# Altium integrated library Big_Library_Oscillator.IntLib: 3 symbols
Pins are listed as number, name and electrical type; pins without a type are passive.

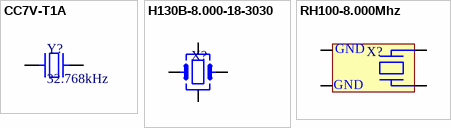
[diagram p0: symbols CC7V-T1A to RH100-8.000Mhz]

## CC7V-T1A
designator Y?, comment 32.768kHz
Crystal 32.768kHz, 20ppm, 2-Pin SMD, 3.2 x 1.5 x 0.9mm; Manufacturer: Micro Crystal; Manufacturer Part Number: CC7V-T1A32.768kHz9pF+-20ppm; Load Capacitance: 9pF; Series Resistance: 70kR; Supplier 1: Rs; RoHS: Yes; Category: Uncategorized; Stock 1: 1; Mount: Surface Mount; Case/Package: SMD/SMT; Number of Pins: 2; Frequency: 32.768kHz; Frequency Tolerance: 20ppm; Length: 3.2mm; Width: 1.5mm; Height: 0.9mm; ComponentLink1URL: http://uk.rs-online.com/webdocs/0d2c/0900766b80d2cb67.pdf?src-supplier=Rs; ComponentLink1Description: http://uk.rs-online.com/webdocs/0d2c/0900766b80d2cb67.pdf?src-supplier=Rs; ComponentLink2URL: http://docs-europe.electrocomponents.com/webdocs/0d2c/0900766b80d2cb67.pdf?src-supplier=Allied+Electronics; ComponentLink2Description: http://docs-europe.electrocomponents.com/webdocs/0d2c/0900766b80d2cb67.pdf?src-supplier=Allied+Electronics
footprint 2-SMD (Crystal, 2-Leads, Body 3.20x1.50mm, IPC Medium Density)
pins: 1, 2

## H130B-8.000-18-3030
designator X?, comment H130B-8.000  (value not drawn)
8 MHz Crystal quartz crystal 100μW 18pF 0.039 1.00mm -40C~85C; Manufacturer: Raltron Electronics; Manufacturer Part Number: H130B-8.000-18-3030-EXT-TR; Frequency: 8MHz; Tolerance: 0.003%; RoHS: Yes; Load Capacitance: 18pF; ComponentLink1Description: Link; ComponentLink1URL: https://ozdisan.com/pasif-komponentler/kristaller-osilatorler-ve-rezanatorler/kristaller/H130B-8-000-18-3030-EXT-/642839
footprint H130B-8.000
pins: 1 X1, 2 GND, 3 X2, 4 GND

## RH100-8.000Mhz
designator X?
footprint RH100-8.000 (Crystal, 4-Leads, Body 2.50x3.20mm, Pitch 2.20mm, IPC Medium Density)
pins: 1 GND, 2 X2, 3 GND, 4 X1